# Altium schematic symbol library LTST-S310F2KT.Schlib: 1 symbol
Pins are listed as number, name and electrical type; pins without a type are passive.

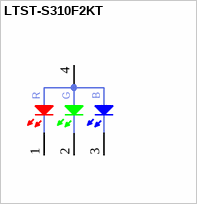
[diagram p0: symbol LTST-S310F2KT]

## LTST-S310F2KT
designator U?
High Luminous PLCC4 Top SMD LEDs
pins: 1 R, 2 AG, 3 AB, 4 CC
text: G; B